# Altium schematic symbol library OPAMP_SOT-23_V1.SchLib: 1 symbol
Pins are listed as number, name and electrical type; pins without a type are passive.

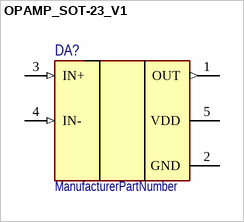
[diagram p0: symbol OPAMP_SOT-23_V1]

## OPAMP_SOT-23_V1
designator DA?  (value not drawn)
ManufacturerPartNumber: ManufacturerPartNumber
pins: 1 OUT (out), 2 GND (power), 3 IN+ (in), 4 IN- (in), 5 VDD (power)
1 alternate drawing of the same symbol